# Altium schematic symbol library ADG604.Schlib: 1 symbol
Pins are listed as number, name and electrical type; pins without a type are passive.

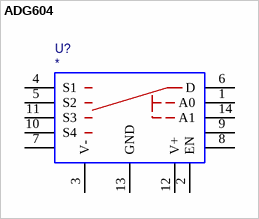
[diagram p0: symbol ADG604]

## ADG604
designator U?
pins: 1 A0, 2 EN, 3 V-, 4 S1, 5 S2, 6 D, 7, 8, 9, 10 S4, 11 S3, 12 V+, 13 GND, 14 A1